# EAGLE library part 750310787 (library Wurth Electronics Midcom Inc - EAGLE Lib V2-1)
Package Style: EE16/8/5 Mounting: THT Pins: 8 pins Bobbin: 070-5420 Best pinouts for production vary per application. Please contact Wurth Electronics Midcom, Inc. for assistance with your custom design. Website: Wurth Electronics Midcom <http://www.we-online.com/midcom> Contact us Wurth Electronics Midcom, Inc. 121 Airport Dr. Watertown, SD 57201 Phone: (605) 886-4385 Fax: (605) 886-4486 E-Mail: midcom@we-online.com
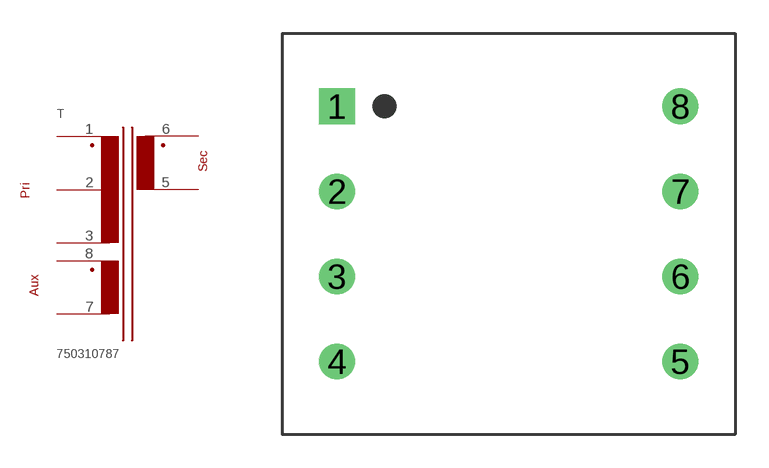
[diagram p251: symbol with the pads of EE16/8/5_THT_H_8PIN_(5420); footprint EE16/8/5_THT_H_8PIN_(5420)]

Designator prefix T

## 750310787  [EE16/8/5_THT_H_8PIN_(5420)]
1  1  pas
2  2  pas
3  3  pas
5  5  pas
6  6  pas
7  7  pas
8  8  pas

## Footprint EE16/8/5_THT_H_8PIN_(5420) (pad centres in mm)
Package Style: EE16/8/5 Mounting: THT Pins: 8 Bobbin: 070-5420
drill 1.067 square: 1 -7.696,5.715
drill 1.067: 2 -7.696,1.905; 3 -7.696,-1.905; 4 -7.696,-5.715; 5 7.696,-5.715; 6 7.696,-1.905; 7 7.696,1.905; 8 7.696,5.715